# Altium footprint library USB MINI B.PcbLib: 2 footprints
Each footprint in its own frame and in the unit in brackets; x right, y up, seen from the top. Pads: shape width x height; smd on the part's side, far side on the other; paste and mask are expansions set on the pad; w line width, h text height; cw(c..) or ccw(c..) is an arc to the next point about the centre after c.
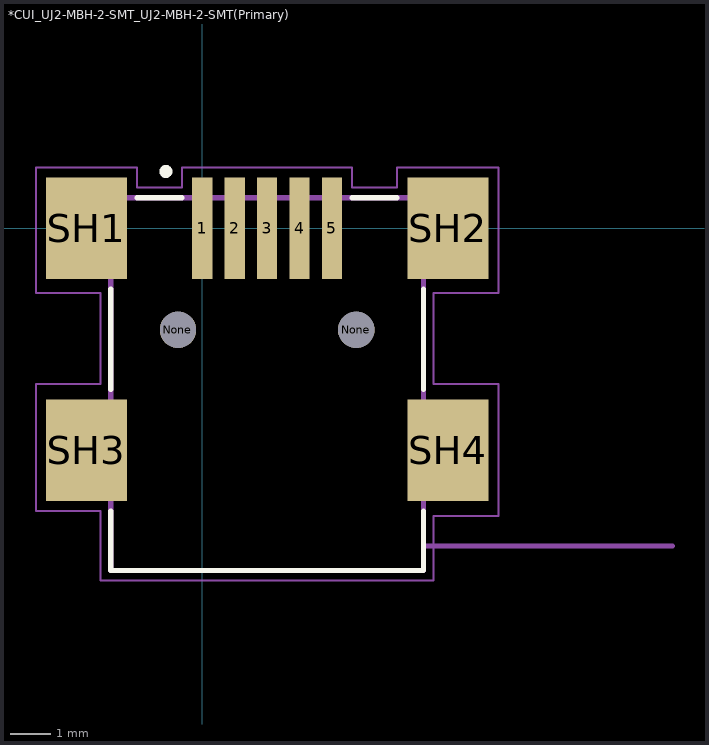
[diagram p0: the footprints below, top view; thin cyan lines are the x and y axes]

## *CUI_UJ2-MBH-2-SMT_UJ2-MBH-2-SMT(Primary) [mm]
pads (11):
  rect 0.5x2.5 smd: 1(0,0) 2(0.8,0) 3(1.6,0) 4(2.4,0) 5(3.2,0)
  round 0.9 hole 0.9 unplated: None(-0.6,-2.51) None(3.8,-2.51)
  rect 2x2.5 smd: SH1(-2.86,0) SH2(6.06,0) SH3(-2.86,-5.48) SH4(6.06,-5.48)
Top Overlay:
  circle w0.16: c-0.9,1.4 r0.08
  lines w0.127: -2.26,-6.98 -2.26,-8.45 5.46,-8.45 5.46,-6.98 ; -2.26,-3.98 -2.26,-1.5 ; -1.61,0.75 -0.5,0.75 ; 3.7,0.75 4.81,0.75 ; 5.46,-3.98 5.46,-1.5
Mechanical 4:
  circle w0.16: c0,0.15 r0.08
  circle w0.16: c0,0.15 r0.08
  lines w0.127: -2.26,-8.45 -2.26,0.75 ; -2.26,-8.45 5.46,-8.45 ; -2.26,-8.45 -2.26,0.75 ; -2.26,-8.45 5.46,-8.45 ; -2.26,0.75 5.46,0.75 ; -2.26,0.75 5.46,0.75 ; 5.46,-8.45 5.46,-7.85 ; 5.46,-8.45 5.46,-7.85 ; 5.46,-7.85 11.6,-7.85 5.46,-7.85 ; 5.46,-7.85 5.46,0.75 ; 5.46,-7.85 5.46,0.75
  text "PCB EDGE" at 5.856,-9.109 h1.88
  text "PCB EDGE" at 5.856,-9.109 h1.88
Mechanical 16:
  lines w0.05: -4.11,-6.98 -2.51,-6.98 -2.51,-8.7 5.71,-8.7 5.71,-7.1 7.31,-7.1 7.31,-3.85 5.71,-3.85 5.71,-1.6 7.31,-1.6 7.31,1.5 4.81,1.5 4.81,1 3.7,1 3.7,1.5 -0.5,1.5 -0.5,1 -1.61,1 -1.61,1.5 -4.11,1.5 -4.11,-1.6 -2.51,-1.6 -2.51,-3.85 -4.11,-3.85 -4.11,-6.98

## PCBComponent_1 [mm]